# EAGLE library part PIN6X1 (library __MyCommonLib1)
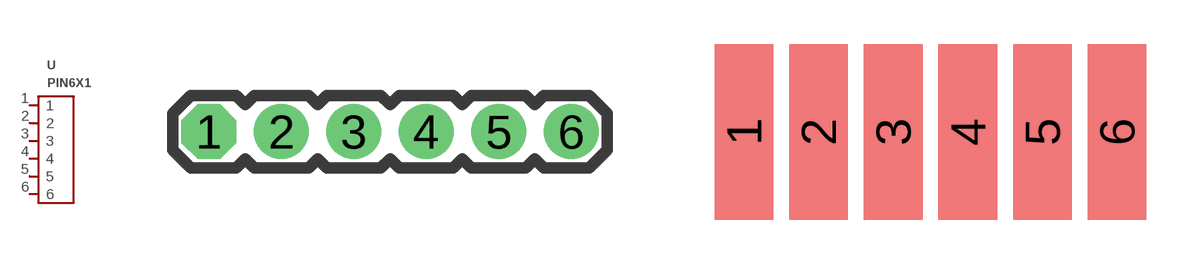
[diagram p26: symbol with the pads of PIN6X1_2.54MM; footprints PIN6X1_2.54MM, PIN6X1_2.54MM_SIDE_BOARD]

Designator prefix -

## PIN6X1(2.54MM)  [PIN6X1_2.54MM]
1  1
2  2
3  3
4  4
5  5
6  6

## PIN6X1(2.54MM_SIDE)  [PIN6X1_2.54MM_SIDE_BOARD]
Pads as for PIN6X1_2.54MM

## Footprint PIN6X1_2.54MM (pad centres in mm)
drill 0.9 pad 1.93 octagon: 1 -6.35,0
drill 0.9 pad 1.93: 2 -3.81,0; 3 -1.27,0; 4 1.27,0; 5 3.81,0; 6 6.35,0

## Footprint PIN6X1_2.54MM_SIDE_BOARD (pad centres in mm)
smd 2 x 6: 1 -6.35,3; 2 -3.81,3; 3 -1.27,3; 4 1.27,3; 5 3.81,3; 6 6.35,3